# EAGLE library part 878240003 (library MyParts)
Molex P/N: 878240003 SATA 7+15 Board Mount Connector
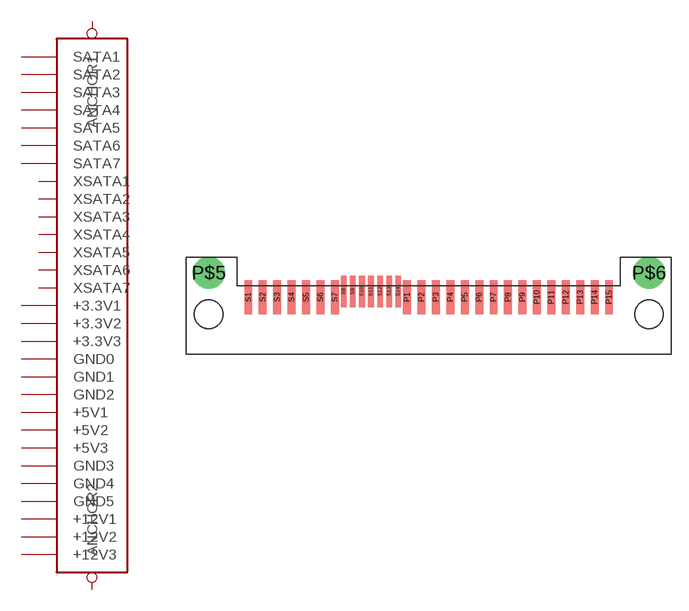
[diagram p0: symbol with the pads of SATASMD; footprint SATASMD]

Designator prefix -

## 878240003  [SATASMD]
P1  +3.3V1  pas
P2  +3.3V2  pas
P3  +3.3V3  pas
P4  GND0  pas
P5  GND1  pas
P6  GND2  pas
P7  +5V1  pas
P8  +5V2  pas
P9  +5V3  pas
P10  GND3  pas
P11  GND4  pas
P12  GND5  pas
P13  +12V1  pas
P14  +12V2  pas
P15  +12V3  pas
P$5  ANCHOR1  pas
P$6  ANCHOR2  pas
S1  SATA1  pas
S2  SATA2  pas
S3  SATA3  pas
S4  SATA4  pas
S5  SATA5  pas
S6  SATA6  pas
S7  SATA7  pas
S8  XSATA1  pas
S9  XSATA2  pas
S10  XSATA3  pas
S11  XSATA4  pas
S12  XSATA5  pas
S13  XSATA6  pas
S14  XSATA7  pas

## Footprint SATASMD (pad centres in mm)
Molex P/N: 878240003 SATA 7+15 Board Mount Connector
smd 0.7 x 3: P1 19.46,5; P2 20.73,5; P3 22,5; P4 23.27,5; P5 24.54,5; P6 25.81,5; P7 27.08,5; P8 28.35,5; P9 29.62,5; P10 30.89,5; P11 32.16,5; P12 33.43,5; P13 34.7,5; P14 35.97,5; P15 37.24,5; S1 5.49,5; S2 6.76,5; S3 8.03,5; S4 9.3,5; S5 10.57,5; S6 11.84,5; S7 13.11,5
drill 1.9 pad 2.7: P$5 2,7.15; P$6 40.76,7.15
smd 0.5 x 2.8: S8 13.89,5.5; S9 14.69,5.5; S10 15.49,5.5; S11 16.29,5.5; S12 17.09,5.5; S13 17.89,5.5; S14 18.69,5.5
hole 2.5 at 2,3.5
hole 2.5 at 40.76,3.5